# Altium footprint library dcdc.PcbLib: 7 footprints
Each footprint in its own frame and in the unit in brackets; x right, y up, seen from the top. Pads: shape width x height; smd on the part's side, far side on the other; paste and mask are expansions set on the pad; w line width, h text height; cw(c..) or ccw(c..) is an arc to the next point about the centre after c.
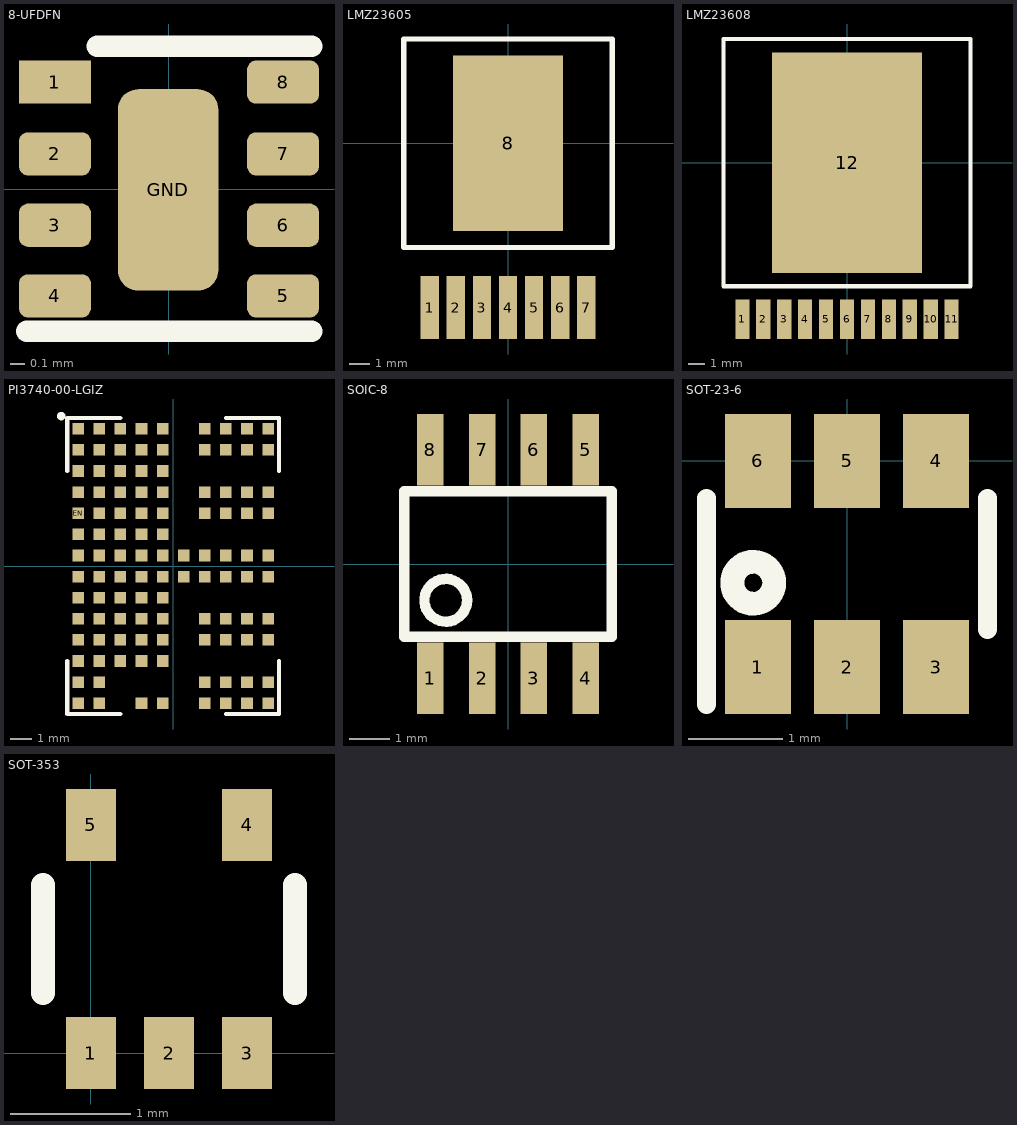
[diagram p0: the footprints below, top view; thin cyan lines are the x and y axes]

## 8-UFDFN [mil]
pads (9):
  rect 20x12 smd: 1(-31.75,29.76)
  rrect40% 20x12 smd: 2(-31.75,9.76) 3(-31.75,-10.08) 4(-31.75,-29.76) 5(31.75,-29.76) 6(31.75,-10.08) 7(31.75,9.76) 8(31.75,29.76)
  rrect40% 28x56 smd: GND(-0.25,-0.24)
Top Overlay:
  lines w6: -39.62,-39.61 39.75,-39.61 ; -19.94,39.76 39.75,39.76
3D body "MLF-8.step": height 33.46, standoff 0, extent -40.01,-39.61 39.51,39.13

## LMZ23605 [mm]
pads (8):
  rect 0.89x3.06 smd: 1(-3.81,-8.001) 2(-2.54,-8.001) 3(-1.27,-8.001) 4(0,-8.001) 5(1.27,-8.001) 6(2.54,-8.001) 7(3.81,-8.001)
  rect 5.35x8.54 smd: 8(0,0)
Top Overlay:
  lines w0.254: -5.08,-5.08 -5.08,5.08 5.08,5.08 5.08,-5.08 -5.08,-5.08
3D body: height 4.6, standoff 0, extent -5.08,-8.382 5.08,5.08

## LMZ23608 [mm]
pads (12):
  rect 0.86x2.41 smd: 1(-6.35,-9.5) 2(-5.08,-9.5) 3(-3.81,-9.5) 4(-2.54,-9.5) 5(-1.27,-9.5) 6(0,-9.5) 7(1.27,-9.5) 8(2.54,-9.5) 9(3.81,-9.5) 10(5.08,-9.5) 11(6.35,-9.5)
  rect 9.126x13.37 smd: 12(0,0)
Top Overlay:
  lines w0.254: -7.5,-7.5 -7.5,7.5 7.5,7.5 7.5,-7.5 -7.5,-7.5
3D body: height 5.9, standoff 0, extent -7.5,-9.5 7.5,7.5

## PI3740-00-LGIZ [mm]
pads (108):
  rect 0.55x0.55 smd: COMP(-4.5,-0.5) EAIN(-4.5,-4.5) EAO(-4.5,-5.5) EN(-4.5,2.5) FT1(-4.5,6.5) FT2(-4.5,5.5) FT3(-4.5,4.5) FT4(-4.5,3.5) IMON(-4.5,-6.5) ISN(-1.5,-6.5) ISP(-0.5,-6.5) LGH(-4.5,0.5) PGD(-1.5,6.5) PGND(-3.5,-1.5) PGND(-3.5,-0.5) PGND(-3.5,0.5) PGND(-3.5,1.5) PGND(-3.5,2.5) PGND(-3.5,3.5) PGND(-3.5,4.5) PGND(-3.5,5.5) PGND(-2.5,-1.5) PGND(-2.5,-0.5) PGND(-2.5,0.5) PGND(-2.5,1.5) PGND(-2.5,2.5) PGND(-2.5,3.5) PGND(-2.5,4.5) PGND(-2.5,5.5) PGND(-1.5,-1.5) PGND(-1.5,-0.5) PGND(-1.5,0.5) PGND(-1.5,1.5) PGND(-1.5,2.5) PGND(-1.5,3.5) PGND(-1.5,4.5) PGND(-1.5,5.5) PGND(-0.5,-1.5) PGND(-0.5,-0.5) PGND(-0.5,0.5) PGND(-0.5,1.5) PGND(-0.5,2.5) PGND(-0.5,3.5) PGND(-0.5,4.5) PGND(-0.5,5.5) PGND(0.5,-0.5) PGND(0.5,0.5) PGND(1.5,-0.5) PGND(1.5,0.5) PGND(2.5,-0.5) PGND(2.5,0.5) PGND(3.5,-0.5) PGND(3.5,0.5) PGND(4.5,-0.5) PGND(4.5,0.5) SGND(-3.5,-6.5) SGND(-3.5,-5.5) SGND(-3.5,-4.5) SGND(-3.5,-3.5) SGND(-3.5,-2.5) SGND(-2.5,-4.5) SGND(-2.5,-3.5) SGND(-2.5,-2.5) SGND(-1.5,-4.5) SGND(-1.5,-3.5) SGND(-1.5,-2.5) SGND(-0.5,-4.5) SGND(-0.5,-3.5) SGND(-0.5,-2.5) SYNC0(-2.5,6.5) SYNC1(-3.5,6.5) TRK(-4.5,1.5) VDIFF(-4.5,-3.5) VDR(-0.5,6.5) VIN(1.5,5.5) VIN(1.5,6.5) VIN(2.5,5.5) VIN(2.5,6.5) VIN(3.5,5.5) VIN(3.5,6.5) VIN(4.5,5.5) VIN(4.5,6.5) VOUT(1.5,-6.5) VOUT(1.5,-5.5) VOUT(2.5,-6.5) VOUT(2.5,-5.5) VOUT(3.5,-6.5) VOUT(3.5,-5.5) VOUT(4.5,-6.5) VOUT(4.5,-5.5) VS1(1.5,2.5) VS1(1.5,3.5) VS1(2.5,2.5) VS1(2.5,3.5) VS1(3.5,2.5) VS1(3.5,3.5) VS1(4.5,2.5) VS1(4.5,3.5) VS2(1.5,-3.5) VS2(1.5,-2.5) VS2(2.5,-3.5) VS2(2.5,-2.5) VS2(3.5,-3.5) VS2(3.5,-2.5) VS2(4.5,-3.5) VS2(4.5,-2.5) VSN(-4.5,-1.5) VSP(-4.5,-2.5)
Top Overlay:
  circle w0.2: c-5.3,7.1 r0.1
  lines w0.2: -5.01,-4.505 -5.01,-7.01 -2.505,-7.01 ; -5.01,4.505 -5.01,7.01 -2.505,7.01 ; 2.505,-7.01 5.01,-7.01 5.01,-4.505 ; 2.505,7.01 5.01,7.01 5.01,4.505
3D body "PI374xx.step": height 2.63, standoff 0, extent -5,-7 5,7

## SOIC-8 [mm]
pads (8):
  rect 0.65x1.75 smd: 1(-1.905,-2.8) 2(-0.635,-2.8) 3(0.635,-2.8) 4(1.905,-2.8) 5(1.905,2.8) 6(0.635,2.8) 7(-0.635,2.8) 8(-1.905,2.8)
Top Overlay:
  circle w0.254: c-1.524,-0.889 r0.524
  lines w0.254: -2.54,-1.778 2.54,-1.778 2.54,1.778 -2.54,1.778 -2.54,-1.778
3D body "S08.stp": height 1.55, standoff 0, extent -2.445,-3 2.455,3

## SOT-23-6 [mm]
pads (6):
  rect 0.7x1 smd: 1(-0.95,-2.2) 2(0,-2.2) 3(0.95,-2.2) 4(0.95,0) 5(0,0) 6(-0.95,0)
Top Overlay:
  circle w0.254: c-1,-1.3 r0.224
  lines w0.2: -1.5,-2.6 -1.5,-0.4 ; 1.5,-1.8 1.5,-0.4
3D body "sot-23-6.stp": height 1.1, standoff -0.01, extent -1.461,-2.545 1.461,0.3

## SOT-353 [mm]
pads (5):
  rect 0.42x0.6 smd: 1(0,0) 2(0.65,0) 3(1.3,0) 4(1.3,1.9) 5(0,1.9)
Top Overlay:
  lines w0.2: -0.4,0.5 -0.4,1.4 ; 1.7,0.5 1.7,1.4
3D body "SOT-353.STEP": height 0.92, standoff 0.02, extent -0.332,-0.15 1.633,2.05